# EAGLE library part FPC-14WAY (library pimoroni-fpc)
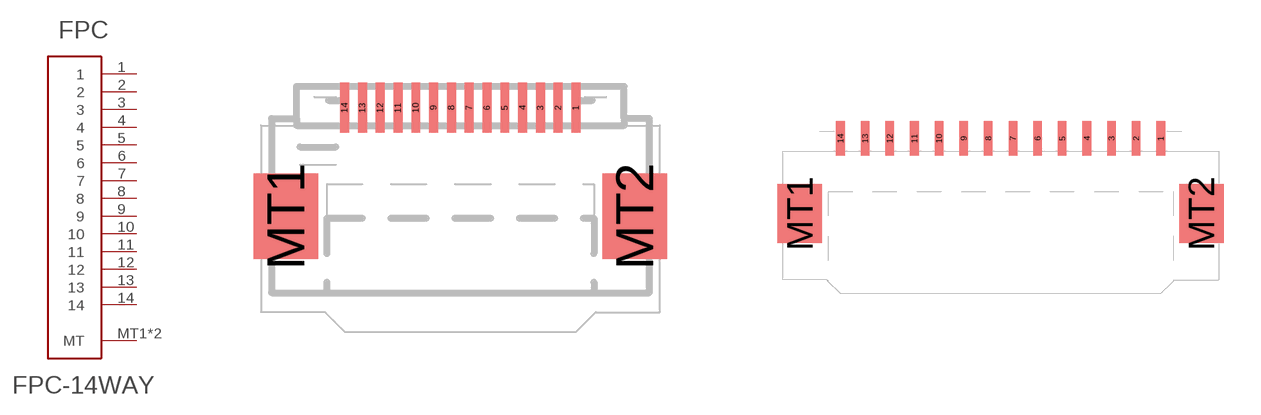
[diagram p9: symbol with the pads of FPC-0.5MM-14WAY; footprints FPC-0.5MM-14WAY, FPC-1.0MM-14WAY]

Designator prefix FPC

## FPC-14WAY0.5  [FPC-0.5MM-14WAY]
1  1
2  2
3  3
4  4
5  5
6  6
7  7
8  8
9  9
10  10
11  11
12  12
13  13
14  14
MT1  MT
MT2  MT

## FPC-14WAY1.0  [FPC-1.0MM-14WAY]
Pads as for FPC-0.5MM-14WAY

## Footprint FPC-0.5MM-14WAY (pad centres in mm)
smd 0.25 x 1.4: 1 3.25,0.7; 2 2.75,0.7; 3 2.25,0.7; 4 1.75,0.7; 5 1.25,0.7; 6 0.75,0.7; 7 0.25,0.7; 8 -0.25,0.7; 9 -0.75,0.7; 10 -1.25,0.7; 11 -1.75,0.7; 12 -2.25,0.7; 13 -2.75,0.7; 14 -3.25,0.7
smd 1.8 x 2.4: MT1 -4.9,-2.35; MT2 4.9,-2.35

## Footprint FPC-1.0MM-14WAY (pad centres in mm)
smd 0.35 x 1.4: 1 6.5,0.7; 2 5.5,0.7; 3 4.5,0.7; 4 3.5,0.7; 5 2.5,0.7; 6 1.5,0.7; 7 0.5,0.7; 8 -0.5,0.7; 9 -1.5,0.7; 10 -2.5,0.7; 11 -3.5,0.7; 12 -4.5,0.7; 13 -5.5,0.7; 14 -6.5,0.7
smd 1.8 x 2.4: MT1 -8.15,-2.35; MT2 8.15,-2.35